# Altium footprint library General_Footprint.PcbLib: 11 footprints
Each footprint in its own frame and in the unit in brackets; x right, y up, seen from the top. Pads: shape width x height; smd on the part's side, far side on the other; paste and mask are expansions set on the pad; w line width, h text height; cw(c..) or ccw(c..) is an arc to the next point about the centre after c.
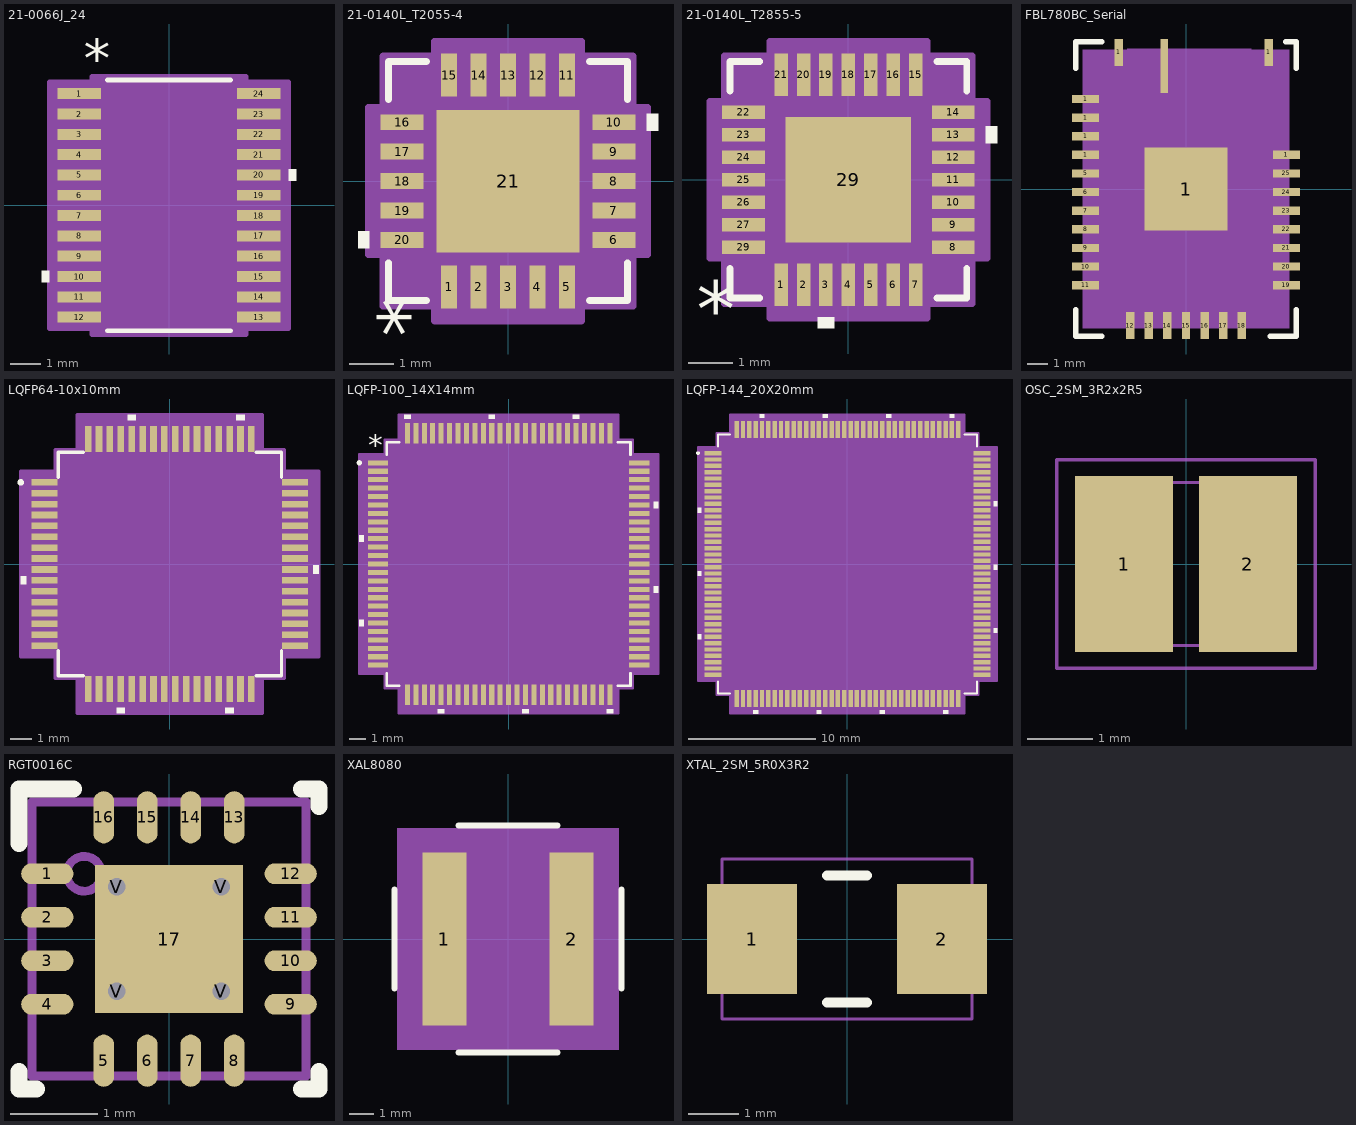
[diagram p0: the footprints below, top view; thin cyan lines are the x and y axes]

## 21-0066J_24 [mil]
pads (24):
  rect 56x14 smd: 1(-115,143) 2(-115,117) 3(-115,91) 4(-115,65) 5(-115,39) 6(-115,13) 7(-115,-13) 8(-115,-39) 9(-115,-65) 10(-115,-91) 11(-115,-117) 12(-115,-143) 13(115,-143) 14(115,-117) 15(115,-91) 16(115,-65) 17(115,-39) 18(115,-13) 19(115,13) 20(115,39) 21(115,65) 22(115,91) 23(115,117) 24(115,143)
Top Overlay:
  region: -153,-83.5 -163,-83.5 -163,-98.5 -153,-98.5
  region: 153,46.5 163,46.5 163,31.5 153,31.5
  lines w6: -79.17,-160.5 79.17,-160.5 ; -79.17,160.5 79.17,160.5
  text "*" at -109,163 h50
Mechanical 13:
  circle w10: c-77,144 r1
  lines w1: -129,-149 -129,-137 -88.5,-137 -88.5,-149 -129,-149 ; -129,-123 -129,-111 -88.5,-111 -88.5,-123 -129,-123 ; -129,-97 -129,-85 -88.5,-85 -88.5,-97 -129,-97 ; -129,-71 -129,-59 -88.5,-59 -88.5,-71 -129,-71 ; -129,-45 -129,-33 -88.5,-33 -88.5,-45 -129,-45 ; -129,-19 -129,-7 -88.5,-7 -88.5,-19 -129,-19 ; -129,7 -129,19 -88.5,19 -88.5,7 -129,7 ; -129,33 -129,45 -88.5,45 -88.5,33 -129,33 ; -129,59 -129,71 -88.5,71 -88.5,59 -129,59 ; -129,85 -129,97 -88.5,97 -88.5,85 -129,85 ; -129,111 -129,123 -88.5,123 -88.5,111 -129,111 ; -129,137 -129,149 -88.5,149 -88.5,137 -129,137 ; -88.5,-155.5 88.5,-155.5 88.5,155.5 -88.5,155.5 -88.5,-155.5 ; 88.5,-149 88.5,-137 129,-137 129,-149 88.5,-149 ; 88.5,-123 88.5,-111 129,-111 129,-123 88.5,-123 ; 88.5,-97 88.5,-85 129,-85 129,-97 88.5,-97 ; 88.5,-71 88.5,-59 129,-59 129,-71 88.5,-71 ; 88.5,-45 88.5,-33 129,-33 129,-45 88.5,-45 ; 88.5,-19 88.5,-7 129,-7 129,-19 88.5,-19 ; 88.5,7 88.5,19 129,19 129,7 88.5,7 ; 88.5,33 88.5,45 129,45 129,33 88.5,33 ; 88.5,59 88.5,71 129,71 129,59 88.5,59 ; 88.5,85 88.5,97 129,97 129,85 88.5,85 ; 88.5,111 88.5,123 129,123 129,111 88.5,111 ; 88.5,137 88.5,149 129,149 129,137 88.5,137
Mechanical 15:
  region: -98.5,-158 -153,-158 -153,158 -98.5,158 -98.5,165.5 98.5,165.5 98.5,158 153,158 153,-158 98.5,-158 98.5,-165.5 -98.5,-165.5
  lines w6: -153,-158 -153,158 -98.5,158 -98.5,165.5 98.5,165.5 98.5,158 153,158 153,-158 98.5,-158 98.5,-165.5 -98.5,-165.5 -98.5,-158 -153,-158
3D body "21-0066J_24.stp": height 43.11, standoff 0, extent -129.02,-155.51 129.01,155.51
3D body "21-0066J_24.stp": height 43.11, standoff 0, extent -129.01,-155.5 129.02,155.52

## 21-0140L_T2055-4 [mil]
pads (21):
  rect 14x38 smd: 1(-52.02,-93.5) 2(-26.02,-93.5) 3(-0.02,-93.5) 4(25.98,-93.5) 5(51.98,-93.5) 11(51.98,93.5) 12(25.98,93.5) 13(-0.02,93.5) 14(-26.02,93.5) 15(-52.02,93.5)
  rect 38x14 smd: 6(93.48,-52) 7(93.48,-26) 8(93.48,0) 9(93.48,26) 10(93.48,52) 16(-93.52,52) 17(-93.52,26) 18(-93.52,0) 19(-93.52,-26) 20(-93.52,-52)
  rect 126x126 smd paste-62.5: 21(-0.02,0)
Top Overlay:
  region: 122.48,59.5 122.48,44.5 132.48,44.5 132.48,59.5
  region: -122.52,-44.5 -122.52,-59.5 -132.52,-59.5 -132.52,-44.5
  lines w6: -105.52,-72.1 -105.52,-105.5 -72.12,-105.5 ; -105.52,72.1 -105.52,105.5 -72.12,105.5 ; 72.08,-105.5 105.48,-105.5 105.48,-72.1 ; 72.08,105.5 105.48,105.5 105.48,72.1
  text "*" at -65.02,-137.5 h50
Top Paste:
  region: -59.08,-3.94 -59.08,-59.06 -3.96,-59.06 -3.96,-3.94
  region: 3.92,-3.94 3.92,-59.06 59.04,-59.06 59.04,-3.94
  region: -59.08,59.06 -59.08,3.94 -3.96,3.94 -3.96,59.06
  region: 3.92,59.06 3.92,3.94 59.04,3.94 59.04,59.06
Mechanical 13:
  lines w1: -100.52,-50.5 -50.52,-100.5 ; -100.52,-100.5 -100.52,100.5 100.48,100.5 100.48,-100.5 -100.52,-100.5 ; -100.52,-59 -100.52,-45 -100.52,-59 ; -100.52,-33 -100.52,-19 -100.52,-33 ; -100.52,-7 -100.52,7 -100.52,-7 ; -100.52,19 -100.52,33 -100.52,19 ; -100.52,45 -100.52,59 -100.52,45 ; -59.02,-100.5 -45.02,-100.5 -59.02,-100.5 ; -59.02,100.5 -45.02,100.5 -59.02,100.5 ; -33.02,-100.5 -19.02,-100.5 -33.02,-100.5 ; -33.02,100.5 -19.02,100.5 -33.02,100.5 ; -7.02,-100.5 6.98,-100.5 -7.02,-100.5 ; -7.02,100.5 6.98,100.5 -7.02,100.5 ; 18.98,-100.5 32.98,-100.5 18.98,-100.5 ; 18.98,100.5 32.98,100.5 18.98,100.5 ; 44.98,-100.5 58.98,-100.5 44.98,-100.5 ; 44.98,100.5 58.98,100.5 44.98,100.5 ; 100.48,-59 100.48,-45 100.48,-59 ; 100.48,-33 100.48,-19 100.48,-33 ; 100.48,-7 100.48,7 100.48,-7 ; 100.48,19 100.48,33 100.48,19 ; 100.48,45 100.48,59 100.48,45
  text "*" at -65.02,-74.5 h50
Mechanical 15:
  region: 110.48,-65 110.48,-110.5 64.98,-110.5 64.98,-123.5 -65.02,-123.5 -65.02,-110.5 -110.52,-110.5 -110.52,-65 -123.52,-65 -123.52,65 -110.52,65 -110.52,110.5 -65.02,110.5 -65.02,123.5 64.98,123.5 64.98,110.5 110.48,110.5 110.48,65 123.48,65 123.48,-65
  lines w6: -123.52,-65 -110.52,-65 -110.52,-110.5 -65.02,-110.5 -65.02,-123.5 64.98,-123.5 64.98,-110.5 110.48,-110.5 110.48,-65 123.48,-65 123.48,65 110.48,65 110.48,110.5 64.98,110.5 64.98,123.5 -65.02,123.5 -65.02,110.5 -110.52,110.5 -110.52,65 -123.52,65 -123.52,-65
3D body "21-0140L_T2055-4.step": height 32.09, standoff 0, extent -100.53,-100.52 100.5,100.51

## 21-0140L_T2855-5 [mil]
pads (29):
  rect 12x38 smd: 1(-60,-93.5) 2(-40,-93.5) 3(-20,-93.5) 4(0,-93.5) 5(20,-93.5) 6(40,-93.5) 7(60,-93.5) 15(60,93.5) 16(40,93.5) 17(20,93.5) 18(0,93.5) 19(-20,93.5) 20(-40,93.5) 21(-60,93.5)
  rect 38x12 smd: 8(93.5,-60) 9(93.5,-40) 10(93.5,-20) 11(93.5,0) 12(93.5,20) 13(93.5,40) 14(93.5,60) 22(-93.5,60) 23(-93.5,40) 24(-93.5,20) 25(-93.5,0) 26(-93.5,-20) 27(-93.5,-40) 29(-93.5,-60)
  rect 112x112 smd paste-65.5: 29(0,0)
Top Overlay:
  region: -12.5,-122.5 -27.5,-122.5 -27.5,-132.5 -12.5,-132.5
  region: 122.5,47.5 132.5,47.5 132.5,32.5 122.5,32.5
  lines w6: -105.5,-79.1 -105.5,-105.5 -79.1,-105.5 ; -105.5,79.1 -105.5,105.5 -79.1,105.5 ; 79.1,-105.5 105.5,-105.5 105.5,-79.1 ; 79.1,105.5 105.5,105.5 105.5,79.1
  text "*" at -135,-140 h50
Top Paste:
  region: -3.94,52.2 -52.2,52.2 -52.2,3.94 -3.94,3.94
  region: -3.94,-3.94 -52.2,-3.94 -52.2,-52.2 -3.94,-52.2
  region: 52.2,52.2 3.94,52.2 3.94,3.94 52.2,3.94
  region: 52.2,-3.94 3.94,-3.94 3.94,-52.2 52.2,-52.2
Mechanical 13:
  lines w1: -100.5,-54 -54,-100.5 ; -100.5,-54 -100.5,-66 -100.5,-54 ; -54,-100.5 -66,-100.5 -54,-100.5 ; -100.5,-100.5 100.5,-100.5 100.5,100.5 -100.5,100.5 -100.5,-100.5 ; -100.5,-46 -100.5,-34 -100.5,-46 ; -100.5,-26 -100.5,-14 -100.5,-26 ; -100.5,-6 -100.5,6 -100.5,-6 ; -100.5,14 -100.5,26 -100.5,14 ; -100.5,34 -100.5,46 -100.5,34 ; -100.5,54 -100.5,66 -100.5,54 ; -66,100.5 -54,100.5 -66,100.5 ; -46,-100.5 -34,-100.5 -46,-100.5 ; -46,100.5 -34,100.5 -46,100.5 ; -26,-100.5 -14,-100.5 -26,-100.5 ; -26,100.5 -14,100.5 -26,100.5 ; -6,-100.5 6,-100.5 -6,-100.5 ; -6,100.5 6,100.5 -6,100.5 ; 14,-100.5 26,-100.5 14,-100.5 ; 14,100.5 26,100.5 14,100.5 ; 34,-100.5 46,-100.5 34,-100.5 ; 34,100.5 46,100.5 34,100.5 ; 54,-100.5 66,-100.5 54,-100.5 ; 54,100.5 66,100.5 54,100.5 ; 100.5,-66 100.5,-54 100.5,-66 ; 100.5,-46 100.5,-34 100.5,-46 ; 100.5,-26 100.5,-14 100.5,-26 ; 100.5,-6 100.5,6 100.5,-6 ; 100.5,14 100.5,26 100.5,14 ; 100.5,34 100.5,46 100.5,34 ; 100.5,54 100.5,66 100.5,54
  text "*" at -90,-100 h50
Mechanical 15:
  region: -70,-110.5 -110.5,-110.5 -110.5,-70 -123.5,-70 -123.5,70 -110.5,70 -110.5,110.5 -70,110.5 -70,123.5 70,123.5 70,110.5 110.5,110.5 110.5,70 123.5,70 123.5,-70 110.5,-70 110.5,-110.5 70,-110.5 70,-123.5 -70,-123.5
  lines w6: -123.5,-70 -110.5,-70 -110.5,-110.5 -70,-110.5 -70,-123.5 70,-123.5 70,-110.5 110.5,-110.5 110.5,-70 123.5,-70 123.5,70 110.5,70 110.5,110.5 70,110.5 70,123.5 -70,123.5 -70,110.5 -110.5,110.5 -110.5,70 -123.5,70 -123.5,-70
3D body "21-0140L_T2855-6.stp": height 32.09, standoff 0, extent -100.51,-100.51 100.52,100.52
3D body "21-0140L_T2855-6.stp": height 32.09, standoff 0, extent -100.52,-100.51 100.51,100.51

## FBL780BC_Serial [mm]
pads (30):
  rect 1.3x0.4 smd: 1(-4.85,1.65) 1(-4.85,2.55) 1(-4.85,3.45) 1(-4.85,4.35) 1(4.85,1.65) 5(-4.85,0.75) 6(-4.85,-0.15) 7(-4.85,-1.05) 8(-4.85,-1.95) 9(-4.85,-2.85) 10(-4.85,-3.75) 11(-4.85,-4.65) 19(4.85,-4.65) 20(4.85,-3.75) 21(4.85,-2.85) 22(4.85,-1.95) 23(4.85,-1.05) 24(4.85,-0.15) 25(4.85,0.75)
  rect 0.4x1.3 smd: 1(-3.25,6.6) 1(4,6.6) 12(-2.7,-6.6) 13(-1.8,-6.6) 14(-0.9,-6.6) 15(0,-6.6) 16(0.9,-6.6) 17(1.8,-6.6) 18(2.7,-6.6)
  rect 4x4 smd: 1(0,0)
  rect 0.35x2.6 smd: 28(-1.05,5.95)
Top Layer:
  region: -0.254,1.448
Top Overlay:
  lines w0.254: -5.334,-5.842 -5.334,-7.112 -4.064,-7.112 ; -5.334,5.842 -5.334,7.112 -4.064,7.112 ; 4.064,-7.112 5.334,-7.112 5.334,-5.842 ; 4.826,7.112 5.334,7.112 5.334,5.842
Mechanical 13:
  rectangle: -2.845,3.581 3.155,6.781
Mechanical 15:
  rectangle: -5,-6.75 5,6.75

## LQFP64-10x10mm [mm]
pads (64):
  rect 1.194x0.305 smd: 1(-5.75,3.75) 2(-5.75,3.25) 3(-5.75,2.75) 4(-5.75,2.25) 5(-5.75,1.75) 6(-5.75,1.25) 7(-5.75,0.75) 8(-5.75,0.25) 9(-5.75,-0.25) 10(-5.75,-0.75) 11(-5.75,-1.25) 12(-5.75,-1.75) 13(-5.75,-2.25) 14(-5.75,-2.75) 15(-5.75,-3.25) 16(-5.75,-3.75) 33(5.75,-3.75) 34(5.75,-3.25) 35(5.75,-2.75) 36(5.75,-2.25) 37(5.75,-1.75) 38(5.75,-1.25) 39(5.75,-0.75) 40(5.75,-0.25) 41(5.75,0.25) 42(5.75,0.75) 43(5.75,1.25) 44(5.75,1.75) 45(5.75,2.25) 46(5.75,2.75) 47(5.75,3.25) 48(5.75,3.75)
  rect 0.305x1.194 smd: 17(-3.75,-5.75) 18(-3.25,-5.75) 19(-2.75,-5.75) 20(-2.25,-5.75) 21(-1.75,-5.75) 22(-1.25,-5.75) 23(-0.75,-5.75) 24(-0.25,-5.75) 25(0.25,-5.75) 26(0.75,-5.75) 27(1.25,-5.75) 28(1.75,-5.75) 29(2.25,-5.75) 30(2.75,-5.75) 31(3.25,-5.75) 32(3.75,-5.75) 49(3.75,5.75) 50(3.25,5.75) 51(2.75,5.75) 52(2.25,5.75) 53(1.75,5.75) 54(1.25,5.75) 55(0.75,5.75) 56(0.25,5.75) 57(-0.25,5.75) 58(-0.75,5.75) 59(-1.25,5.75) 60(-1.75,5.75) 61(-2.25,5.75) 62(-2.75,5.75) 63(-3.25,5.75) 64(-3.75,5.75)
Top Overlay:
  circle w0.152: c-6.851,3.75 r0.076
  region: -6.601,-0.56 -6.855,-0.56 -6.855,-0.941 -6.601,-0.941
  region: -2.06,-6.601 -2.441,-6.601 -2.441,-6.855 -2.06,-6.855
  region: 2.94,-6.601 2.559,-6.601 2.559,-6.855 2.94,-6.855
  region: 6.601,-0.059 6.855,-0.059 6.855,-0.44 6.601,-0.44
  region: 3.441,6.601 3.06,6.601 3.06,6.855 3.441,6.855
  region: -1.559,6.601 -1.94,6.601 -1.94,6.855 -1.559,6.855
  lines w0.152: -5.131,-3.975 -5.131,-5.131 -3.975,-5.131 ; -5.131,3.975 -5.131,5.131 -3.975,5.131 ; 3.975,-5.131 5.131,-5.131 5.131,-3.975 ; 3.975,5.131 5.131,5.131 5.131,3.975
Mechanical 13:
  circle w0: c-4.518,3.75 r0.076
  lines w0.025: -5.004,3.734 -3.734,5.004 ; -5.004,-5.004 5.004,-5.004 5.004,5.004 -5.004,5.004 -5.004,-5.004
Mechanical 15:
  region: -4.258,-5.258 -5.258,-5.258 -5.258,-4.258 -6.855,-4.258 -6.855,4.258 -5.258,4.258 -5.258,5.258 -4.258,5.258 -4.258,6.855 4.258,6.855 4.258,5.258 5.258,5.258 5.258,4.258 6.855,4.258 6.855,-4.258 5.258,-4.258 5.258,-5.258 4.258,-5.258 4.258,-6.855 -4.258,-6.855
  lines w0.152: -6.855,-4.258 -5.258,-4.258 -5.258,-5.258 -4.258,-5.258 -4.258,-6.855 4.258,-6.855 4.258,-5.258 5.258,-5.258 5.258,-4.258 6.855,-4.258 6.855,4.258 5.258,4.258 5.258,5.258 4.258,5.258 4.258,6.855 -4.258,6.855 -4.258,5.258 -5.258,5.258 -5.258,4.258 -6.855,4.258 -6.855,-4.258
3D body: height 0.25, standoff 0, extent 0,0 0.254,0.254
3D body "LQFP64-10x10mm.step": height 1.6, standoff 0, extent -5.997,-5.997 5.997,5.997

## LQFP-100_14X14mm [mm]
pads (100):
  rect 1.2x0.3 smd: 1(-7.75,6) 2(-7.75,5.5) 3(-7.75,5) 4(-7.75,4.5) 5(-7.75,4) 6(-7.75,3.5) 7(-7.75,3) 8(-7.75,2.5) 9(-7.75,2) 10(-7.75,1.5) 11(-7.75,1) 12(-7.75,0.5) 13(-7.75,0) 14(-7.75,-0.5) 15(-7.75,-1) 16(-7.75,-1.5) 17(-7.75,-2) 18(-7.75,-2.5) 19(-7.75,-3) 20(-7.75,-3.5) 21(-7.75,-4) 22(-7.75,-4.5) 23(-7.75,-5) 24(-7.75,-5.5) 25(-7.75,-6) 51(7.75,-6) 52(7.75,-5.5) 53(7.75,-5) 54(7.75,-4.5) 55(7.75,-4) 56(7.75,-3.5) 57(7.75,-3) 58(7.75,-2.5) 59(7.75,-2) 60(7.75,-1.5) 61(7.75,-1) 62(7.75,-0.5) 63(7.75,0) 64(7.75,0.5) 65(7.75,1) 66(7.75,1.5) 67(7.75,2) 68(7.75,2.5) 69(7.75,3) 70(7.75,3.5) 71(7.75,4) 72(7.75,4.5) 73(7.75,5) 74(7.75,5.5) 75(7.75,6)
  rect 0.3x1.2 smd: 26(-6,-7.75) 27(-5.5,-7.75) 28(-5,-7.75) 29(-4.5,-7.75) 30(-4,-7.75) 31(-3.5,-7.75) 32(-3,-7.75) 33(-2.5,-7.75) 34(-2,-7.75) 35(-1.5,-7.75) 36(-1,-7.75) 37(-0.5,-7.75) 38(0,-7.75) 39(0.5,-7.75) 40(1,-7.75) 41(1.5,-7.75) 42(2,-7.75) 43(2.5,-7.75) 44(3,-7.75) 45(3.5,-7.75) 46(4,-7.75) 47(4.5,-7.75) 48(5,-7.75) 49(5.5,-7.75) 50(6,-7.75) 76(6,7.75) 77(5.5,7.75) 78(5,7.75) 79(4.5,7.75) 80(4,7.75) 81(3.5,7.75) 82(3,7.75) 83(2.5,7.75) 84(2,7.75) 85(1.5,7.75) 86(1,7.75) 87(0.5,7.75) 88(0,7.75) 89(-0.5,7.75) 90(-1,7.75) 91(-1.5,7.75) 92(-2,7.75) 93(-2.5,7.75) 94(-3,7.75) 95(-3.5,7.75) 96(-4,7.75) 97(-4.5,7.75) 98(-5,7.75) 99(-5.5,7.75) 100(-6,7.75)
Top Overlay:
  circle w0.152: c-8.854,6 r0.076
  region: -8.604,1.69 -8.858,1.69 -8.858,1.309 -8.604,1.309
  region: -8.604,-3.31 -8.858,-3.31 -8.858,-3.691 -8.604,-3.691
  region: -3.809,-8.604 -4.19,-8.604 -4.19,-8.858 -3.809,-8.858
  region: 1.191,-8.604 0.81,-8.604 0.81,-8.858 1.191,-8.858
  region: 6.191,-8.604 5.81,-8.604 5.81,-8.858 6.191,-8.858
  region: 8.604,-1.309 8.858,-1.309 8.858,-1.69 8.604,-1.69
  region: 8.604,3.691 8.858,3.691 8.858,3.31 8.604,3.31
  region: 4.19,8.604 3.809,8.604 3.809,8.858 4.19,8.858
  region: -0.81,8.604 -1.191,8.604 -1.191,8.858 -0.81,8.858
  region: -5.81,8.604 -6.191,8.604 -6.191,8.858 -5.81,8.858
  lines w0.152: -7.227,-6.483 -7.227,-7.227 -6.483,-7.227 ; -7.227,6.483 -7.227,7.227 -6.483,7.227 ; 6.483,-7.227 7.227,-7.227 7.227,-6.483 ; 6.483,7.227 7.227,7.227 7.227,6.483
  text "*" at -8.331,6.401 h1.27
Mechanical 13:
  circle w0: c-6.515,6 r0.076
  lines w0.025: -7.1,5.83 -5.83,7.1 ; -7.1,-7.1 7.1,-7.1 7.1,7.1 -7.1,7.1 -7.1,-7.1
Mechanical 15:
  region: -6.508,-7.354 -7.354,-7.354 -7.354,-6.508 -8.858,-6.508 -8.858,6.508 -7.354,6.508 -7.354,7.354 -6.508,7.354 -6.508,8.858 6.508,8.858 6.508,7.354 7.354,7.354 7.354,6.508 8.858,6.508 8.858,-6.508 7.354,-6.508 7.354,-7.354 6.508,-7.354 6.508,-8.858 -6.508,-8.858
  lines w0.152: -8.858,-6.508 -7.354,-6.508 -7.354,-7.354 -6.508,-7.354 -6.508,-8.858 6.508,-8.858 6.508,-7.354 7.354,-7.354 7.354,-6.508 8.858,-6.508 8.858,6.508 7.354,6.508 7.354,7.354 6.508,7.354 6.508,8.858 -6.508,8.858 -6.508,7.354 -7.354,7.354 -7.354,6.508 -8.858,6.508 -8.858,-6.508
3D body "LQFP-100_14X14mm.stp": height 1.6, standoff 0, extent -8,-8 8,8

## LQFP-144_20X20mm [mm]
pads (144):
  rect 1.35x0.35 smd: 1(-10.625,8.75) 2(-10.625,8.25) 3(-10.625,7.75) 4(-10.625,7.25) 5(-10.625,6.75) 6(-10.625,6.25) 7(-10.625,5.75) 8(-10.625,5.25) 9(-10.625,4.75) 10(-10.625,4.25) 11(-10.625,3.75) 12(-10.625,3.25) 13(-10.625,2.75) 14(-10.625,2.25) 15(-10.625,1.75) 16(-10.625,1.25) 17(-10.625,0.75) 18(-10.625,0.25) 19(-10.625,-0.25) 20(-10.625,-0.75) 21(-10.625,-1.25) 22(-10.625,-1.75) 23(-10.625,-2.25) 24(-10.625,-2.75) 25(-10.625,-3.25) 26(-10.625,-3.75) 27(-10.625,-4.25) 28(-10.625,-4.75) 29(-10.625,-5.25) 30(-10.625,-5.75) 31(-10.625,-6.25) 32(-10.625,-6.75) 33(-10.625,-7.25) 34(-10.625,-7.75) 35(-10.625,-8.25) 36(-10.625,-8.75) 73(10.625,-8.75) 74(10.625,-8.25) 75(10.625,-7.75) 76(10.625,-7.25) 77(10.625,-6.75) 78(10.625,-6.25) 79(10.625,-5.75) 80(10.625,-5.25) 81(10.625,-4.75) 82(10.625,-4.25) 83(10.625,-3.75) 84(10.625,-3.25) 85(10.625,-2.75) 86(10.625,-2.25) 87(10.625,-1.75) 88(10.625,-1.25) 89(10.625,-0.75) 90(10.625,-0.25) 91(10.625,0.25) 92(10.625,0.75) 93(10.625,1.25) 94(10.625,1.75) 95(10.625,2.25) 96(10.625,2.75) 97(10.625,3.25) 98(10.625,3.75) 99(10.625,4.25) 100(10.625,4.75) 101(10.625,5.25) 102(10.625,5.75) 103(10.625,6.25) 104(10.625,6.75) 105(10.625,7.25) 106(10.625,7.75) 107(10.625,8.25) 108(10.625,8.75)
  rect 0.35x1.35 smd: 37(-8.75,-10.625) 38(-8.25,-10.625) 39(-7.75,-10.625) 40(-7.25,-10.625) 41(-6.75,-10.625) 42(-6.25,-10.625) 43(-5.75,-10.625) 44(-5.25,-10.625) 45(-4.75,-10.625) 46(-4.25,-10.625) 47(-3.75,-10.625) 48(-3.25,-10.625) 49(-2.75,-10.625) 50(-2.25,-10.625) 51(-1.75,-10.625) 52(-1.25,-10.625) 53(-0.75,-10.625) 54(-0.25,-10.625) 55(0.25,-10.625) 56(0.75,-10.625) 57(1.25,-10.625) 58(1.75,-10.625) 59(2.25,-10.625) 60(2.75,-10.625) 61(3.25,-10.625) 62(3.75,-10.625) 63(4.25,-10.625) 64(4.75,-10.625) 65(5.25,-10.625) 66(5.75,-10.625) 67(6.25,-10.625) 68(6.75,-10.625) 69(7.25,-10.625) 70(7.75,-10.625) 71(8.25,-10.625) 72(8.75,-10.625) 109(8.75,10.625) 110(8.25,10.625) 111(7.75,10.625) 112(7.25,10.625) 113(6.75,10.625) 114(6.25,10.625) 115(5.75,10.625) 116(5.25,10.625) 117(4.75,10.625) 118(4.25,10.625) 119(3.75,10.625) 120(3.25,10.625) 121(2.75,10.625) 122(2.25,10.625) 123(1.75,10.625) 124(1.25,10.625) 125(0.75,10.625) 126(0.25,10.625) 127(-0.25,10.625) 128(-0.75,10.625) 129(-1.25,10.625) 130(-1.75,10.625) 131(-2.25,10.625) 132(-2.75,10.625) 133(-3.25,10.625) 134(-3.75,10.625) 135(-4.25,10.625) 136(-4.75,10.625) 137(-5.25,10.625) 138(-5.75,10.625) 139(-6.25,10.625) 140(-6.75,10.625) 141(-7.25,10.625) 142(-7.75,10.625) 143(-8.25,10.625) 144(-8.75,10.625)
Top Overlay:
  circle w0.152: c-11.804,8.75 r0.076
  region: -6.559,11.554 -6.94,11.554 -6.94,11.808 -6.559,11.808
  region: -1.559,11.554 -1.94,11.554 -1.94,11.808 -1.559,11.808
  region: 3.441,11.554 3.06,11.554 3.06,11.808 3.441,11.808
  region: 8.441,11.554 8.06,11.554 8.06,11.808 8.441,11.808
  region: 11.554,4.941 11.808,4.941 11.808,4.56 11.554,4.56
  region: 11.554,-0.059 11.808,-0.059 11.808,-0.44 11.554,-0.44
  region: 11.554,-5.059 11.808,-5.059 11.808,-5.44 11.554,-5.44
  region: 7.94,-11.554 7.559,-11.554 7.559,-11.808 7.94,-11.808
  region: 2.94,-11.554 2.559,-11.554 2.559,-11.808 2.94,-11.808
  region: -2.06,-11.554 -2.441,-11.554 -2.441,-11.808 -2.06,-11.808
  region: -7.06,-11.554 -7.441,-11.554 -7.441,-11.808 -7.06,-11.808
  region: -11.554,-5.56 -11.808,-5.56 -11.808,-5.941 -11.554,-5.941
  region: -11.554,-0.56 -11.808,-0.56 -11.808,-0.941 -11.554,-0.941
  region: -11.554,4.44 -11.808,4.44 -11.808,4.059 -11.554,4.059
  lines w0.152: -10.227,-9.258 -10.227,-10.227 -9.258,-10.227 ; -10.227,9.258 -10.227,10.227 -9.258,10.227 ; 9.258,-10.227 10.227,-10.227 10.227,-9.258 ; 9.258,10.227 10.227,10.227 10.227,9.258
Mechanical 13:
  circle w0: c-9.315,8.75 r0.076
  lines w0.025: -10.1,8.83 -8.83,10.1 ; -10.1,-10.1 -10.1,10.1 10.1,10.1 10.1,-10.1 -10.1,-10.1
Mechanical 15:
  region: -9.258,-10.354 -10.354,-10.354 -10.354,-9.258 -11.808,-9.258 -11.808,9.258 -10.354,9.258 -10.354,10.354 -9.258,10.354 -9.258,11.808 9.258,11.808 9.258,10.354 10.354,10.354 10.354,9.258 11.808,9.258 11.808,-9.258 10.354,-9.258 10.354,-10.354 9.258,-10.354 9.258,-11.808 -9.258,-11.808
  lines w0.152: -11.808,-9.258 -11.808,9.258 -10.354,9.258 -10.354,10.354 -9.258,10.354 -9.258,11.808 9.258,11.808 9.258,10.354 10.354,10.354 10.354,9.258 11.808,9.258 11.808,-9.258 10.354,-9.258 10.354,-10.354 9.258,-10.354 9.258,-11.808 -9.258,-11.808 -9.258,-10.354 -10.354,-10.354 -10.354,-9.258 -11.808,-9.258
3D body: height 0.25, standoff 0, extent 0,0 0.254,0.254

## OSC_2SM_3R2x2R5 [mm] "Crystal 8M Hz 3.2x2.5mm SMD"
pads (2):
  rect 1.5x2.7 smd: 1(-0.95,0) 2(0.95,0)
Mechanical 13:
  lines w0.051: -1.6,-1.25 -1.6,1.25 1.6,1.25 1.6,-1.25 -1.6,-1.25
Mechanical 15:
  lines w0.051: -1.981,-1.6 1.981,-1.6 1.981,1.6 -1.981,1.6 -1.981,-1.6
3D body: height 1, standoff 0, extent -1.6,-1.25 1.6,1.25

## RGT0016C [mm]
pads (21):
  oval 0.6x0.24 smd paste-0.102 mask+0.051: 1(-1.4,0.75) 2(-1.4,0.25) 3(-1.4,-0.25) 4(-1.4,-0.75) 9(1.4,-0.75) 10(1.4,-0.25) 11(1.4,0.25) 12(1.4,0.75)
  oval 0.24x0.6 smd paste-0.102 mask+0.051: 5(-0.75,-1.4) 6(-0.25,-1.4) 7(0.25,-1.4) 8(0.75,-1.4) 13(0.75,1.4) 14(0.25,1.4) 15(-0.25,1.4) 16(-0.75,1.4)
  rect 1.7x1.7 smd paste-0.837 mask+0.051: 17(0,0)
  round 0.5 / inner round 1.524 / far side round 0.5 hole 0.203 mask+0.051: V(-0.6,-0.6) V(-0.6,0.6) V(0.6,-0.6) V(0.6,0.6)
Top Overlay:
  lines w0.2: -1.725,-1.525 -1.725,-1.725 -1.525,-1.725 ; -1.725,1.1 -1.725,1.725 -1.1,1.725 ; 1.525,-1.725 1.725,-1.725 1.725,-1.525 ; 1.525,1.725 1.725,1.725 1.725,1.525
Top Paste:
  region: -0.774,0.774 -0.774,-0.774 0.774,-0.774 0.774,0.774
Mechanical 13:
  circle w0.1: c-0.975,0.75 r0.2
  lines w0.1: -1.575,-1.575 -1.575,1.575 1.575,1.575 1.575,-1.575 -1.575,-1.575
3D body: height 0.25, standoff 0, extent 0,0 0.254,0.254

## XAL8080 [mm]
pads (2):
  rect 1.78x7 smd: 1(-2.58,0) 2(2.58,0)
Top Overlay:
  lines w0.254: -4.6,-2 -4.6,2 ; -2,-4.6 2,-4.6 ; -2,4.6 2,4.6 ; 4.6,-2 4.6,2
Mechanical 15:
  rectangle: -4.5,-4.5 4.5,4.5
3D body "Coilcraft-XAL8080.step": height 7.7, standoff -0.3, extent -4.15,-4.4 4.15,4.4

## XTAL_2SM_5R0X3R2 [mm] "CRYSTAL 25M Hz  30F SMD 2 pads"
height 1.3
pads (2):
  rect 1.8x2.2 smd: 1(-1.9,0) 2(1.9,0)
Top Overlay:
  lines w0.203: -0.4,-1.27 0.4,-1.27 ; -0.4,1.27 0.4,1.27
Mechanical 13:
  lines w0.051: -2.5,-1.6 2.5,-1.6 2.5,1.6 -2.5,1.6 -2.5,-1.6
3D body: height 1.3, standoff 0, extent -2.5,-1.6 2.5,1.6